# Altium footprint library FT_lib.PcbLib: 19 footprints (part 1 of 2)
Each footprint in its own frame and in the unit in brackets; x right, y up, seen from the top. Pads: shape width x height; smd on the part's side, far side on the other; paste and mask are expansions set on the pad; w line width, h text height; cw(c..) or ccw(c..) is an arc to the next point about the centre after c.
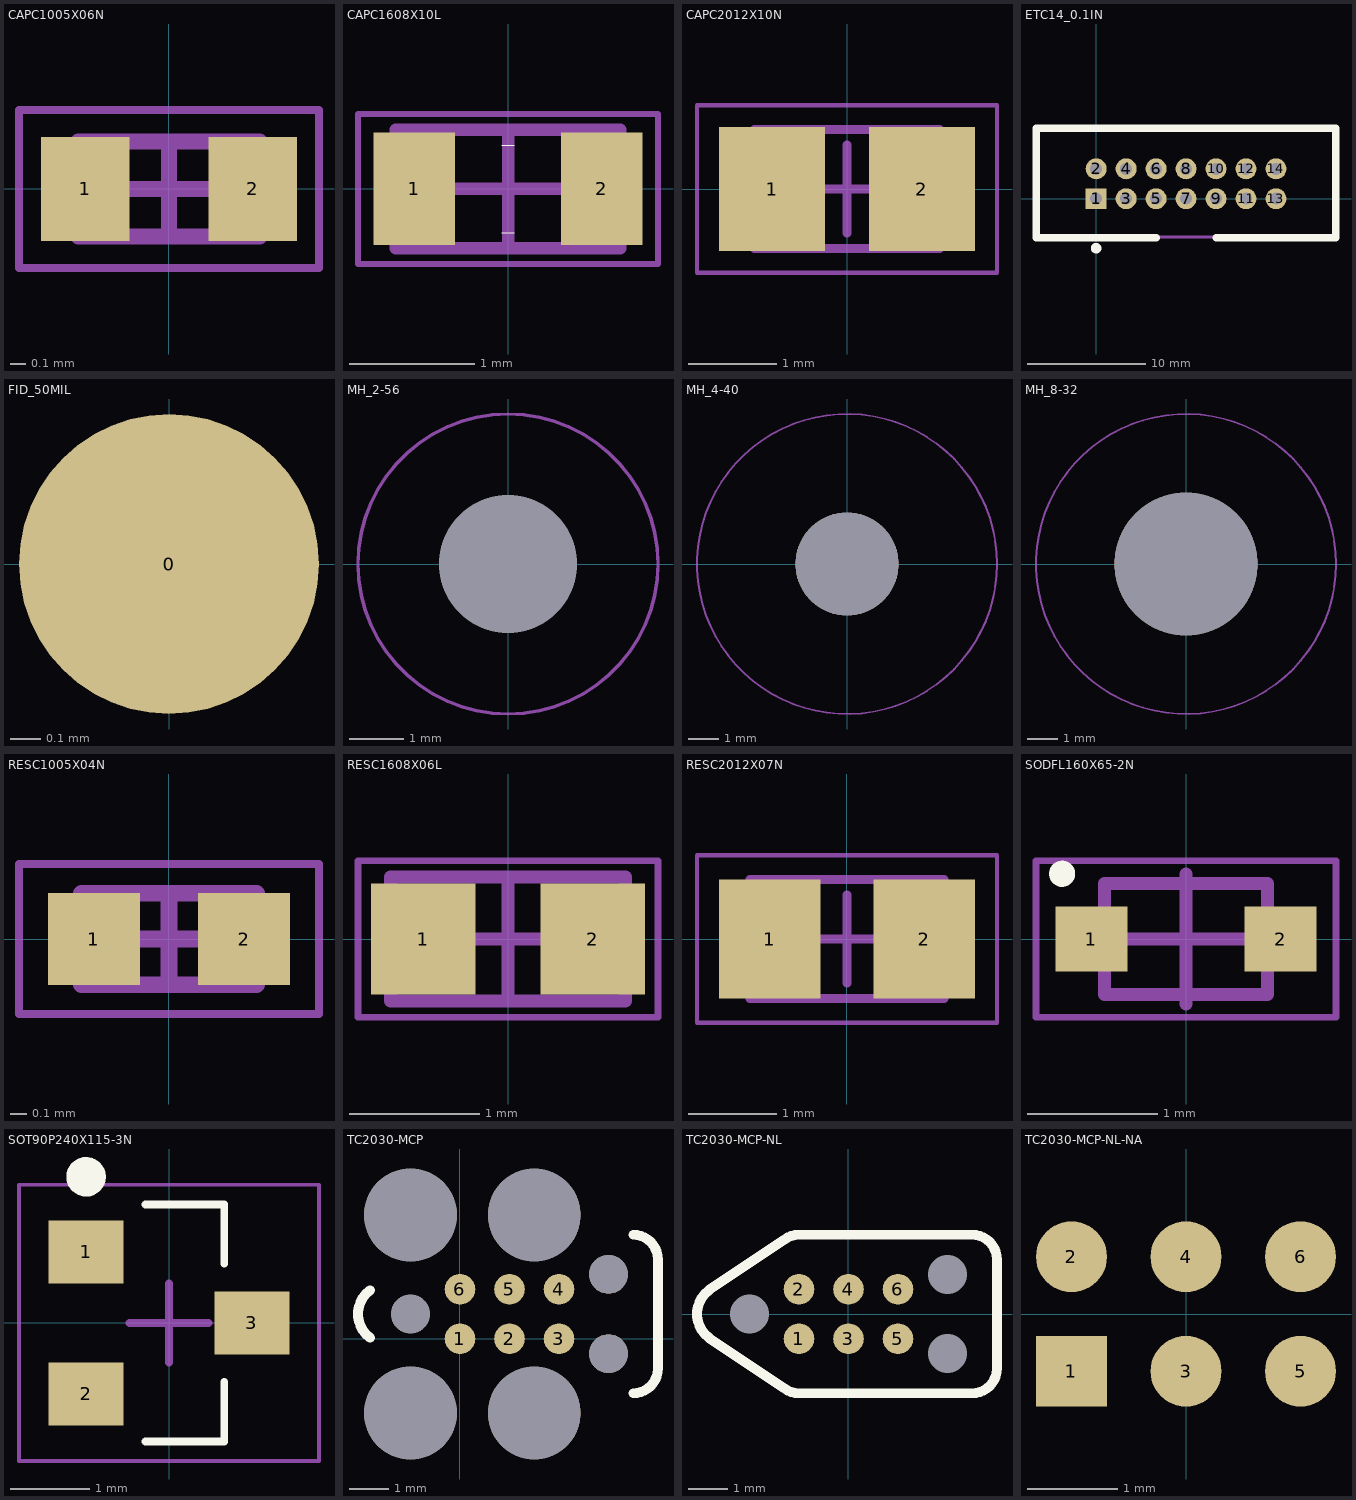
[diagram p0: the footprints below, top view; thin cyan lines are the x and y axes]

## CAPC1005X06N [mm] "Chip Capacitor, 2-Leads, Body 1.05x0.53mm, IPC Medium Density"
height 0.6
pads (2):
  rect 0.56x0.66 smd: 1(-0.53,0) 2(0.53,0)
Top Assembly:
  text "'.Designator'" at 0,0 h0.51
Top 3D Body:
  lines w0.1: -0.575,-0.3 0.575,-0.3 0.575,0.3 -0.575,0.3 -0.575,-0.3
Top Courtyard:
  lines w0.05: -0.95,-0.5 0.95,-0.5 0.95,0.5 -0.95,0.5 -0.95,-0.5
  lines w0.1: -0.3,0 0.3,0 ; 0,-0.3 0,0.3
3D body "CAPC1005X06N.step": height 0.6, standoff 0, extent -0.575,-0.3 0.575,0.3

## CAPC1608X10L [mm] "Chip Capacitor, 2-Leads, Body 1.65x0.83mm, IPC High Density"
height 0.95
pads (2):
  rect 0.65x0.9 smd: 1(-0.75,0) 2(0.75,0)
Top Overlay:
  lines w0: -0.05,-0.35 0.05,-0.35 ; -0.05,0.35 0.05,0.35
Top Assembly:
  text "'.Designator'" at 0,0 h0.51
Top 3D Body:
  lines w0.1: -0.9,-0.475 0.9,-0.475 0.9,0.475 -0.9,0.475 -0.9,-0.475
Top Courtyard:
  lines w0.05: -1.2,-0.6 -1.2,0.6 1.2,0.6 1.2,-0.6 -1.2,-0.6
  lines w0.1: -0.475,0 0.475,0 ; 0,-0.475 0,0.475
3D body "CAPC1608X10L.step": height 0.95, standoff 0, extent -0.9,-0.475 0.9,0.475

## CAPC2012X10N [mm] "Chip Capacitor, 2-Leads, Body 2.00x1.25mm, IPC Medium Density"
height 0.95
pads (2):
  rect 1.2x1.4 smd: 1(-0.85,0) 2(0.85,0)
Top Assembly:
  lines w0.1: -1.05,-0.675 -1.05,0.675 1.05,0.675 1.05,-0.675 -1.05,-0.675
  text "'.Designator'" at 0,0 h0.51
Top Courtyard:
  lines w0.05: -1.7,-0.95 -1.7,0.95 1.7,0.95 1.7,-0.95 -1.7,-0.95
  lines w0.1: -0.5,0 0.5,0 ; 0,-0.5 0,0.5
3D body "CAPC2012X10N.step": height 0.95, standoff 0, extent -1.05,-0.675 1.05,0.675

## ETC14_0.1IN [mil] "0.1\" 2 row 14 pin header for the edge/tag connect"
height 356.3
pads (14):
  rect 70x70 hole 40: 1(0,0)
  round 70 hole 40: 2(0,100) 3(100,0) 4(100,100) 5(200,0) 6(200,100) 7(300,0) 8(300,100) 9(400,0) 10(400,100) 11(500,0) 12(500,100) 13(600,0) 14(600,100)
Top Overlay:
  circle w25: c0,-165 r5
  lines w25: 200,-130 -200,-130 -200,235 800,235 800,-130 400,-130
Top Assembly:
  text "'.Designator'" at -130,0 h100
Top Courtyard:
  lines w10: -200.79,-126.97 -200.79,231.3 800.2,231.3 800.2,-126.97 -200.79,-126.97
3D body "ETC14_0.1IN.step": height 354.3, standoff -122.08, extent -200,-127.16 800,231.1

## FID_50MIL [mm] "50mil diameter fiducial"
pads (1):
  round 1 smd mask+0.5: 0(0,0)

## MH_2-56 [mil] "Mounting Hole for 2-56 or M2 Standoff Screw Size"
pads (1):
  round 100 hole 100 unplated mask+10: ""(0,0)
Top 3D Body:
  circle w2.5: c0,0 r109
Bottom 3D Body:
  circle w2.5: c0,0 r109

## MH_4-40 [mil] "Mounting Hole for 4-40 or M3 Standoff Screw Size"
pads (1):
  round 134 hole 134 unplated mask+10: ""(0,0)
Top 3D Body:
  circle w2.5: c0,0 r195
Bottom 3D Body:
  circle w2.5: c0,0 r195

## MH_8-32 [mil] "Mounting Hole for 8-32 or M4 Standoff Screw Size"
pads (1):
  round 186 hole 186 unplated mask+10: ""(0,0)
Top 3D Body:
  circle w2.5: c0,0 r195
Bottom 3D Body:
  circle w2.5: c0,0 r195

## RESC1005X04N [mm] "Chip Resistor, 2-Leads, Body 1.00x0.50mm, IPC Medium Density"
height 0.4
pads (2):
  rect 0.55x0.55 smd: 1(-0.45,0) 2(0.45,0)
Top Assembly:
  text "'.Designator'" at 0,0 h0.36
Top 3D Body:
  lines w0.1: -0.525,-0.275 -0.525,0.275 0.525,0.275 0.525,-0.275 -0.525,-0.275
Top Courtyard:
  lines w0.05: -0.9,-0.45 0.9,-0.45 0.9,0.45 -0.9,0.45 -0.9,-0.45
  lines w0.1: -0.275,0 0.275,0 ; 0,-0.275 0,0.275
3D body "RESC1005X04N.step": height 0.4, standoff 0, extent -0.525,-0.275 0.525,0.275

## RESC1608X06L [mm] "Chip Resistor, 2-Leads, Body 1.60x0.83mm, IPC High Density"
height 0.55
pads (2):
  rect 0.8x0.85 smd: 1(-0.65,0) 2(0.65,0)
Top Assembly:
  text "'.Designator'" at 0,0 h0.36
Top 3D Body:
  lines w0.1: -0.9,-0.475 0.9,-0.475 0.9,0.475 -0.9,0.475 -0.9,-0.475
Top Courtyard:
  lines w0.05: -1.15,-0.6 -1.15,0.6 1.15,0.6 1.15,-0.6 -1.15,-0.6
  lines w0.1: -0.475,0 0.475,0 ; 0,-0.475 0,0.475
3D body "RESC1608X06L.step": height 0.55, standoff 0, extent -0.9,-0.475 0.9,0.475

## RESC2012X07N [mm] "Chip Resistor, 2-Leads, Body 2.00x1.25mm, IPC Medium Density"
height 0.7
pads (2):
  rect 1.15x1.35 smd: 1(-0.875,0) 2(0.875,0)
Top Assembly:
  lines w0.1: -1.1,-0.675 -1.1,0.675 1.1,0.675 1.1,-0.675 -1.1,-0.675
Top Courtyard:
  lines w0.05: -1.7,-0.95 -1.7,0.95 1.7,0.95 1.7,-0.95 -1.7,-0.95
  lines w0.1: -0.5,0 0.5,0 ; 0,-0.5 0,0.5
3D body "RESC2012X07N.step": height 0.7, standoff 0, extent -1.1,-0.675 1.1,0.675

## SODFL160X65-2N [mm] "SODFL, 2-Leads, Body 0.80x1.60mm, IPC Medium Density"
height 0.65
pads (2):
  rect 0.55x0.5 smd: 1(-0.725,0) 2(0.725,0)
Top Overlay:
  circle w0.1: c-0.95,0.5 r0.05
Top Assembly:
  lines w0.1: -0.625,-0.425 -0.625,0.425 0.625,0.425 0.625,-0.425 -0.625,-0.425
Top Courtyard:
  lines w0.05: -1.15,-0.6 -1.15,0.6 1.15,0.6 1.15,-0.6 -1.15,-0.6
  lines w0.1: -0.5,0 0.5,0 ; 0,-0.5 0,0.5
3D body "SODFL160X65-2N.step": height 0.65, standoff 0, extent -0.8,-0.425 0.8,0.425

## SOT90P240X115-3N [mm] "SOT23, 3-Leads, Body 2.90x2.40mm, Pitch 0.90mm, IPC Medium Density"
height 1.15
pads (3):
  rect 0.95x0.8 smd: 1(-1.05,0.9) 2(-1.05,-0.9) 3(1.05,0)
Top Overlay:
  circle w0.25: c-1.05,1.85 r0.125
  lines w0.1: -0.3,-1.5 0.7,-1.5 0.7,-0.75 ; -0.3,1.5 0.7,1.5 0.7,0.75
Top Assembly:
  text "'.Designator'" at 0.001,0 h0.76
Top Courtyard:
  lines w0.05: -1.9,-1.75 1.9,-1.75 1.9,1.75 -1.9,1.75 -1.9,-1.75
  lines w0.1: -0.5,0 0.5,0 ; 0,-0.5 0,0.5
3D body "SOT90P240X115-3N.step": height 1.15, standoff 0, extent -1.275,-1.5 1.275,1.5

## TC2030-MCP [mil] "Target for Tag Connect TC2030"
pads (13):
  round 31 smd paste-35.43: 1(0,0) 2(50,0) 3(100,0) 4(100,50) 5(50,50) 6(0,50)
  round 93.5 hole 93.5 unplated: ""(-50,-75) ""(-50,125) ""(75,-75) ""(75,125)
  round 39 hole 39 unplated: ""(-50,25) ""(150,-15) ""(150,65)
Top Overlay:
  lines w10: -91,1 cw(c-73,25) -91,49 ; 175,-55 ccw(c175,-30) 200,-30 200,80 ccw(c175,80) 175,105
Top Assembly:
  text "'.Designator'" at -60,0 h50

## TC2030-MCP-NL [mil] "Target for Tag Connect TC2030 with Locator Holes"
pads (9):
  round 0 hole 39.37 unplated paste+0 mask+0: 0(-100,0) 0(100,-40) 0(100,40)
  round 31 smd paste-35.43: 1(-50,-25) 2(-50,25) 3(0,-25) 4(0,25) 5(50,-25) 6(50,25)
Top Overlay:
  lines w10: -141,-24 cw(c-123,0) -141,24 ; -140,-25 -65,-75 ccw(c-50,-55) -50,-80 125,-80 ccw(c125,-55) 150,-55 150,55 ccw(c125,55) 125,80 -50,80 ccw(c-50,55) -65,75 -140,25
Top Assembly:
  text "'.Designator'" at 0,0 h40

## TC2030-MCP-NL-NA [mil] "Target for Tag Connect TC2030 - No alignment"
pads (6):
  rect 31x31 smd paste-35.43: 1(-50,-25)
  round 31 smd paste-35.43: 2(-50,25) 3(0,-25) 4(0,25) 5(50,-25) 6(50,25)
Top Assembly:
  text "'.Designator'" at 0,0 h30